# Altium footprint library R781805.PcbLib: 1 footprints
Each footprint in its own frame and in the unit in brackets; x right, y up, seen from the top. Pads: shape width x height; smd on the part's side, far side on the other; paste and mask are expansions set on the pad; w line width, h text height; cw(c..) or ccw(c..) is an arc to the next point about the centre after c.
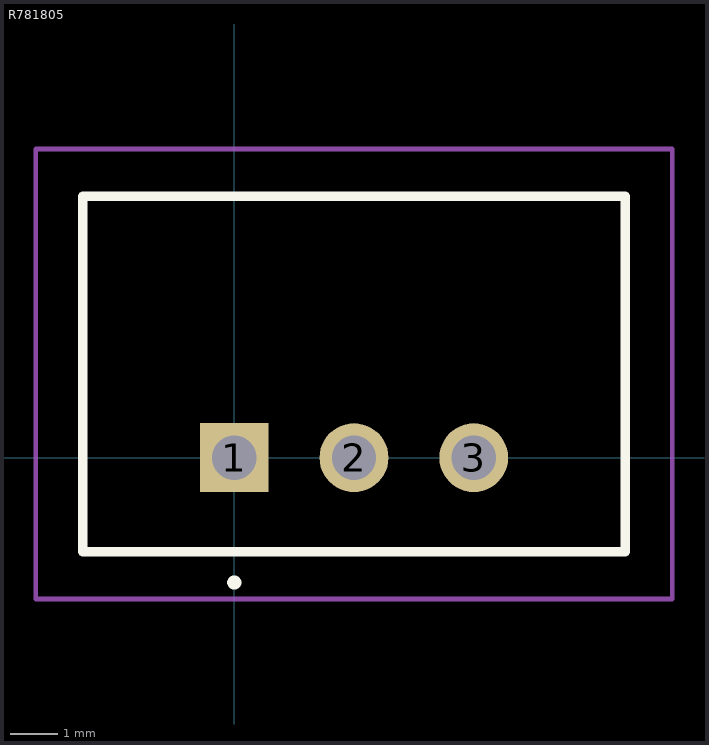
[diagram p0: the footprint, top view; thin cyan lines are the x and y axes]

## R781805 [mm]
pads (3):
  rect 1.462x1.462 hole 0.94: 1(0,0)
  round 1.462 hole 0.94: 2(2.54,0) 3(5.08,0)
Top Overlay:
  lines w0.2: 0,-2.7 0,-2.7 ; 0,-2.7 ccw(c0,-2.65) 0,-2.6 ; 0,-2.7 cw(c0,-2.65) 0,-2.6 ; 0,-2.7 0,-2.7 ; 0,-2.7 ccw(c0,-2.65) 0,-2.6 ; 0,-2.6 0,-2.6 ; -3.21,-2 8.29,-2 8.29,5.55 -3.21,5.55 -3.21,-2
Mechanical 15:
  lines w0.1: -3.21,-2 8.29,-2 8.29,5.55 -3.21,5.55 -3.21,-2
Mechanical 20:
  lines w0.1: -4.21,-3 9.29,-3 9.29,6.55 -4.21,6.55 -4.21,-3